# Altium schematic symbol library M1n_footprint.SCHLIB: 3 symbols
Pins are listed as number, name and electrical type; pins without a type are passive.

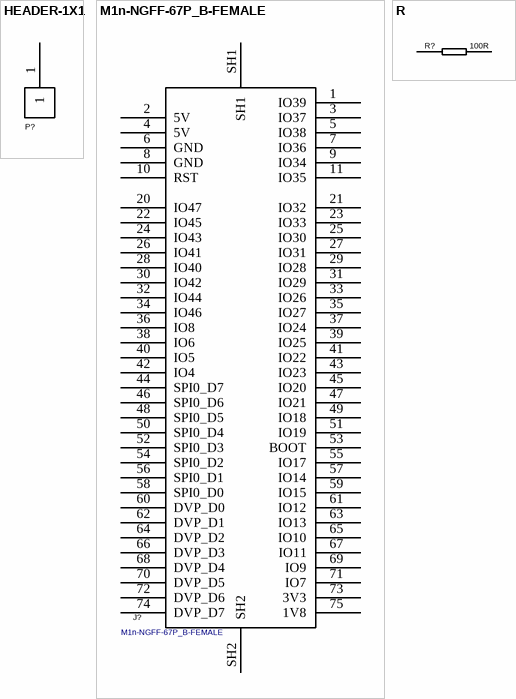
[diagram p0: symbols HEADER-1X1 to R]

## HEADER-1X1
designator P?, comment M2x4.5x4.2 铜柱2.6H 贴片螺母  (value not drawn)
footprint M.2 SMT-female - full
pins: 1

## M1n-NGFF-67P_B-FEMALE
designator J?
footprint M2-67P0R50_B_FEMALE (M2-67P0R50_B)
pins: 1 IO39, 2 5V, 3 IO37, 4 5V, 5 IO38, 6 GND, 7 IO36, 8 GND, 9 IO34, 10 RST, 11 IO35, 20 IO47, 21 IO32, 22 IO45, 23 IO33, 24 IO43, 25 IO30, 26 IO41, 27 IO31, 28 IO40, 29 IO28, 30 IO42, 31 IO29, 32 IO44, 33 IO26, 34 IO46, 35 IO27, 36 IO8, 37 IO24, 38 IO6, 39 IO25, 40 IO5, 41 IO22, 42 IO4, 43 IO23, 44 SPI0_D7, 45 IO20, 46 SPI0_D6, 47 IO21, 48 SPI0_D5, 49 IO18, 50 SPI0_D4, 51 IO19, 52 SPI0_D3, 53 BOOT, 54 SPI0_D2, 55 IO17, 56 SPI0_D1, 57 IO14, 58 SPI0_D0, 59 IO15, 60 DVP_D0, 61 IO12, 62 DVP_D1, 63 IO13, 64 DVP_D2, 65 IO10, 66 DVP_D3, 67 IO11, 68 DVP_D4, 69 IO9, 70 DVP_D5, 71 IO7, 72 DVP_D6, 73 3V3, 74 DVP_D7, 75 1V8, SH1, SH2

## R
designator R?, comment 100R
footprint 0805R
footprint R-AXIAL0.3
footprint R-AXIAL0.4
footprint R0402_M
pins: 1, 2